# EAGLE library part TPS6211* (library TI)
17V, 1.5A, Step-Down Converter
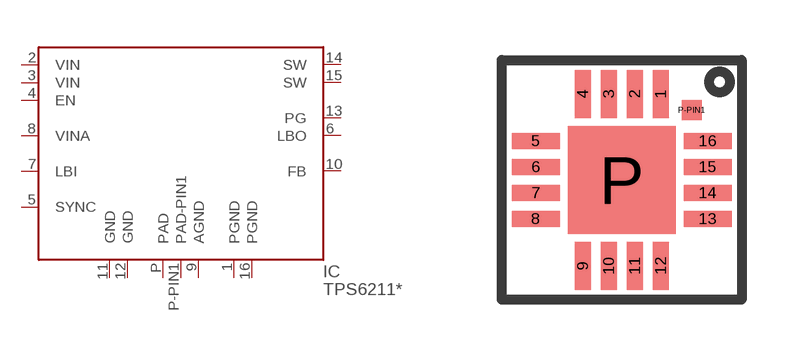
[diagram p10: symbol with the pads of QFN16-.65PITCH; footprint QFN16-.65PITCH]

Designator prefix IC

## TPS62110RSA, TPS62111RSA, TPS62112RSA  [QFN16-.65PITCH]
1  PGND  pwr
2  VIN  pwr
3  VIN  pwr
4  EN  in
5  SYNC  in
6  LBO  out
7  LBI  in
8  VINA  pwr
9  AGND  pwr
10  FB  in
11  GND  pwr
12  GND  pwr
13  PG  out
14  SW  out
15  SW  out
16  PGND  pwr
P  PAD  pwr
P-PIN1  PAD-PIN1  pwr

## Footprint QFN16-.65PITCH (pad centres in mm)
QFN 16 pin package, 0.65mm pitch
smd 0.4 x 1.2: 1 0.975,2.15; 2 0.325,2.15; 3 -0.325,2.15; 4 -0.975,2.15; 9 -0.975,-2.15; 10 -0.325,-2.15; 11 0.325,-2.15; 12 0.975,-2.15
smd 1.2 x 0.4: 5 -2.15,0.975; 6 -2.15,0.325; 7 -2.15,-0.325; 8 -2.15,-0.975; 13 2.15,-0.975; 14 2.15,-0.325; 15 2.15,0.325; 16 2.15,0.975
smd 2.7 x 2.7: P 0,0
smd 0.5 x 0.5: P-PIN1 1.75,1.75